# Altium schematic symbol library Relay Mod.SchLib: 1 symbol
Pins are listed as number, name and electrical type; pins without a type are passive.

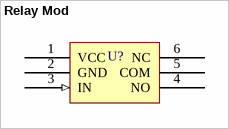
[diagram p0: symbol Relay Mod]

## Relay Mod
designator U?  (value not drawn)
pins: 1 VCC (power), 2 GND (power), 3 IN (in), 4 NO (power), 5 COM (power), 6 NC (power)